# EAGLE library part PJ-002A_SMT (library power_connector)
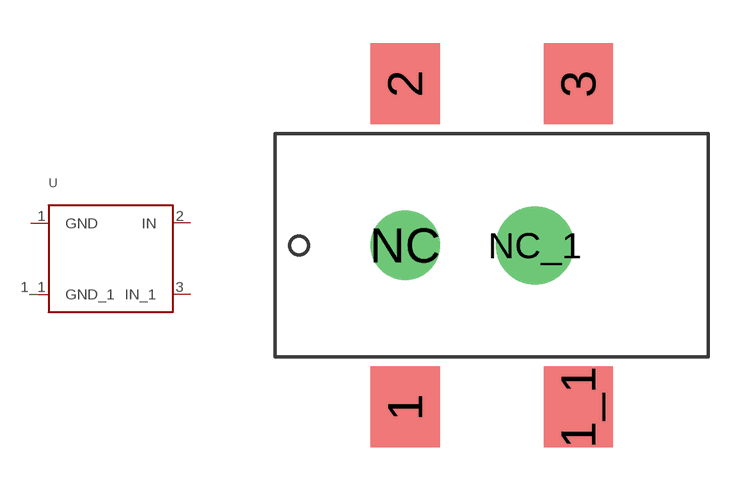
[diagram p0: symbol with the pads of PJ-002A_SMT; footprint PJ-002A_SMT]

Designator prefix -

## PJ-002A_SMT  [PJ-002A_SMT]
1  GND
1_1  GND_1
2  IN
3  IN_1
NC  NC  nc
NC_1  NC_1  nc

## Footprint PJ-002A_SMT (pad centres in mm)
smd 2.4 x 2.8: 1 -3,-5.6; 1_1 3,-5.6; 2 -3,5.6; 3 3,5.6
drill 1.6 round: NC -3,0
drill 1.8 round: NC_1 1.5,0